# Altium footprint library B4B-XH-A.PcbLib: 1 footprints
Each footprint in its own frame and in the unit in brackets; x right, y up, seen from the top. Pads: shape width x height; smd on the part's side, far side on the other; paste and mask are expansions set on the pad; w line width, h text height; cw(c..) or ccw(c..) is an arc to the next point about the centre after c.
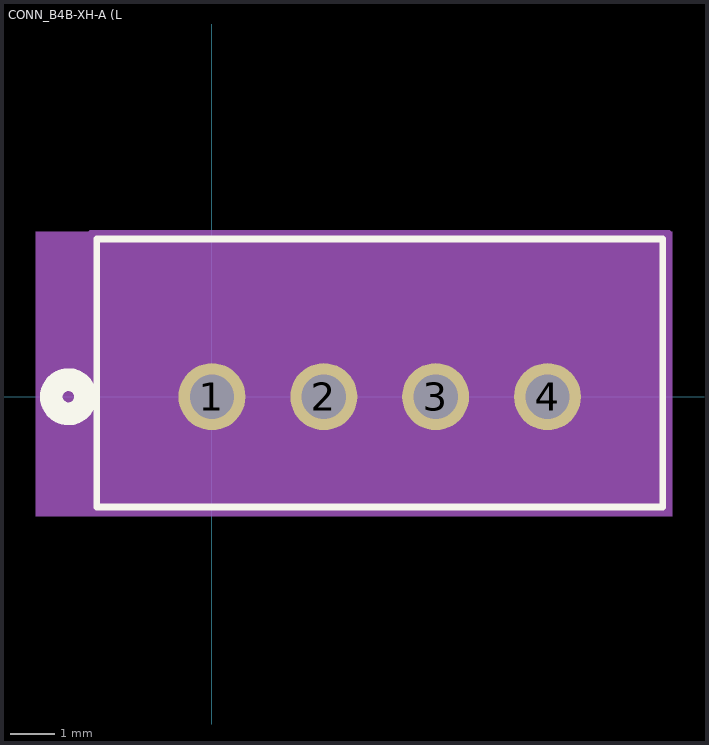
[diagram p0: the footprint, top view; thin cyan lines are the x and y axes]

## CONN_B4B-XH-A (L [mil]
pads (4):
  round 59 hole 39 mask+0: 1(0,0) 2(98.43,0) 3(196.86,0) 4(295.29,0)
Top Overlay:
  circle w20: c-126.36,0 r15
  lines w6: -101.36,-97.14 396.64,-97.14 396.64,138.86 -101.36,138.86 -101.36,-97.14
Bottom Overlay:
  circle w20: c-126.36,0 r15
Mechanical 5:
  region: -155,145 405,145 405,-105 -155,-105
Mechanical 13:
  circle w20: c0,-75 r15
  lines w1: -96.36,-92.14 391.64,-92.14 391.64,133.86 -96.36,133.86 -96.36,-92.14
Mechanical 15:
  region: 401.64,143.86 -106.36,143.86 -106.36,-102.14 401.64,-102.14
  lines w6: -106.36,-102.14 -106.36,143.86 401.64,143.86 401.64,-102.14 -106.36,-102.14
3D body: height 10, standoff 0, extent 0,0 10,10
3D body "User Library-jst-b4b-xh-a-1.step": height 275.59, standoff -133.86, extent -94.1,-90 394.1,136.38